# Altium footprint library ILDA UNO Shield.PcbLib: 16 footprints
Each footprint in its own frame and in the unit in brackets; x right, y up, seen from the top. Pads: shape width x height; smd on the part's side, far side on the other; paste and mask are expansions set on the pad; w line width, h text height; cw(c..) or ccw(c..) is an arc to the next point about the centre after c.
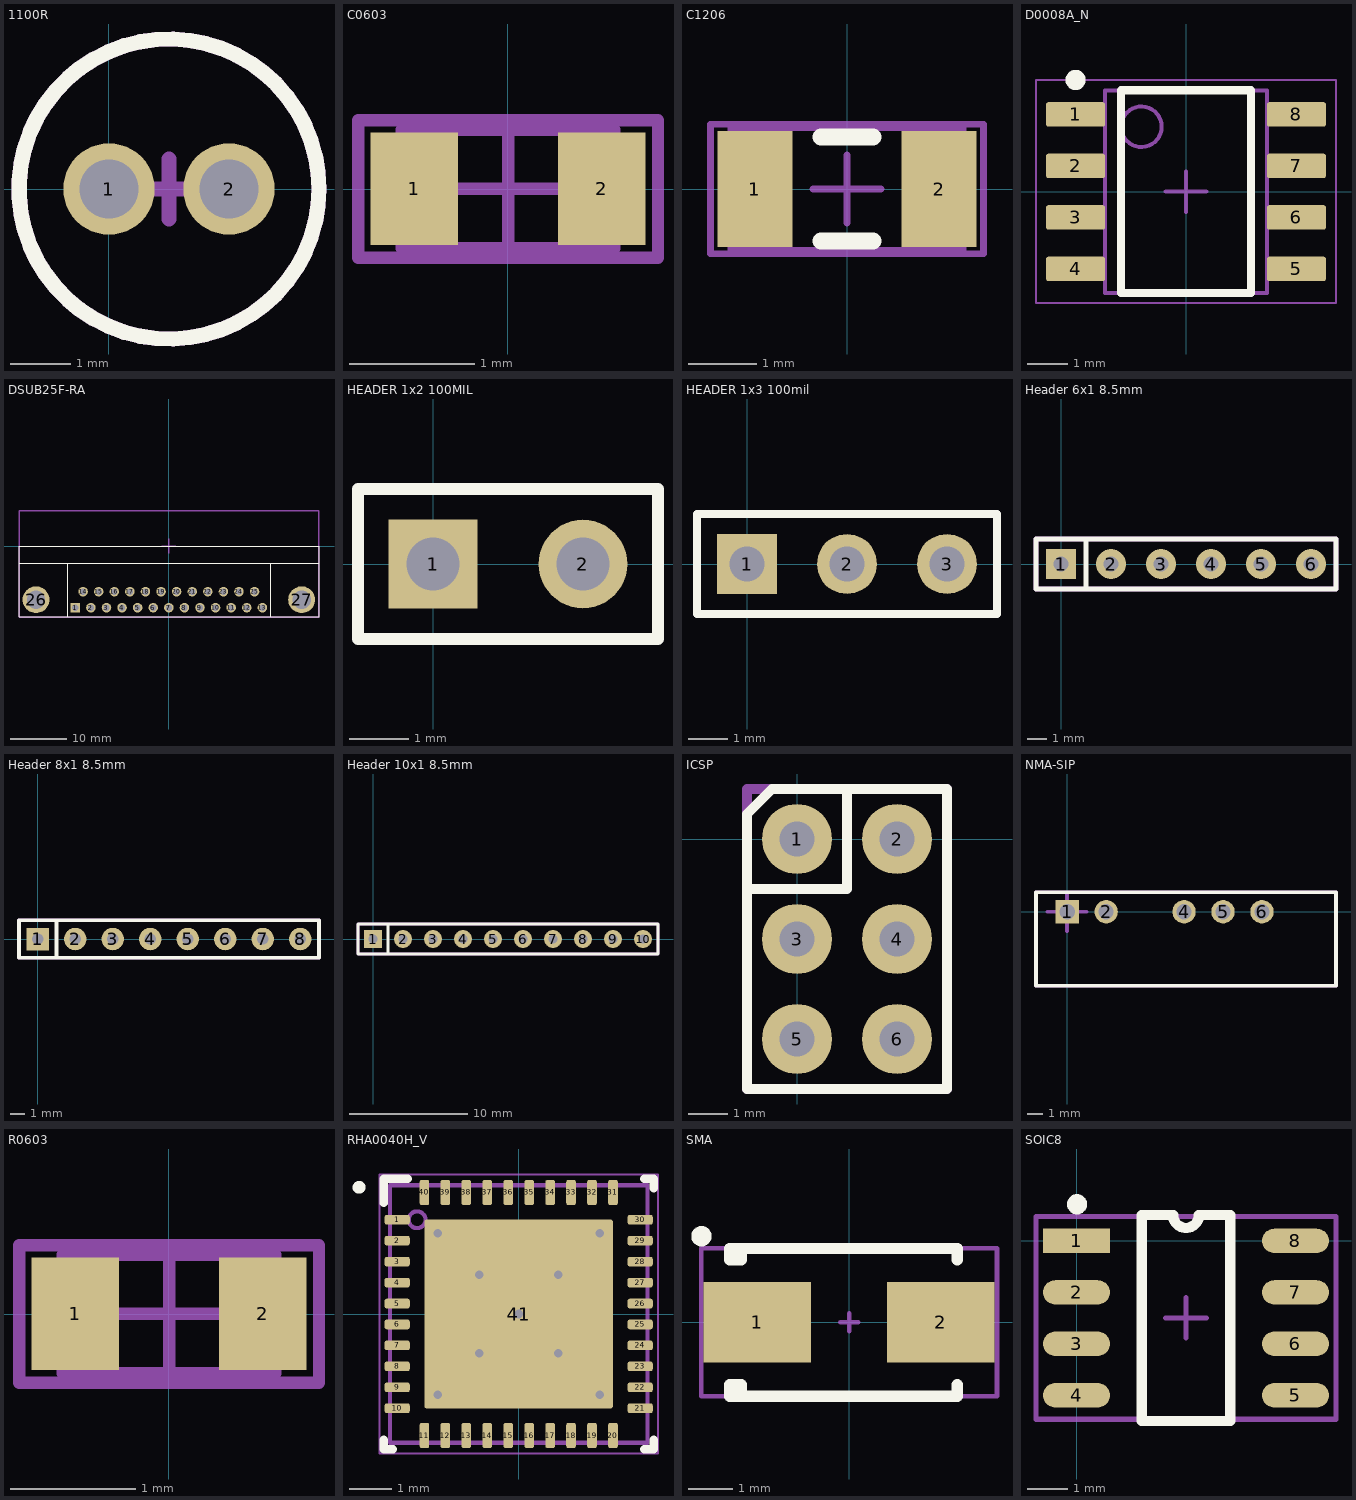
[diagram p0: the footprints below, top view; thin cyan lines are the x and y axes]

## 1100R [mil] "Murata 1100R Series Radial Lead Inductor"
pads (2):
  round 60 hole 39: 1(0,0) 2(78.74,0)
Top Overlay:
  circle w10: c39.37,0 r98.43
Mechanical 15:
  circle w10: c39.37,0 r98.43
  lines w10: 19.68,0 59.06,0 ; 39.37,-19.68 39.37,19.68
3D body "mag_1100r.STEP": height 217.08, standoff -136.78, extent -76.26,-115.62 155,115.64

## C0603 [mm] "Chip Capacitor, Body 1.6x0.8mm, IPC High Density"
height 0.9
pads (2):
  rect 0.7x0.9 smd: 1(-0.75,0) 2(0.75,0)
Mechanical 13:
  lines w0.1: -0.85,-0.475 -0.85,0.475 0.85,0.475 0.85,-0.475 -0.85,-0.475
Mechanical 15:
  lines w0.1: -0.475,0 0.475,0 ; 0,-0.475 0,0.475 ; -1.2,-0.55 -1.2,0.55 1.2,0.55 1.2,-0.55 -1.2,-0.55
3D body: height 0.9, standoff 0, extent -0.85,-0.475 0.85,0.475

## C1206 [mm] "Chip Capacitor, Body 3.2x1.6mm, IPC High Density"
height 1.3
pads (2):
  rect 1.1x1.7 smd: 1(-1.35,0) 2(1.35,0)
Top Overlay:
  lines w0.254: -0.381,-0.762 0.381,-0.762 ; -0.381,0.762 0.381,0.762
Mechanical 13:
  lines w0.1: -1.7,-0.9 -1.7,0.9 1.7,0.9 1.7,-0.9 -1.7,-0.9
Mechanical 15:
  lines w0.1: -0.5,0 0.5,0 ; 0,-0.5 0,0.5 ; -2,-0.95 -2,0.95 2,0.95 2,-0.95 -2,-0.95
3D body: height 1.3, standoff 0, extent -1.7,-0.9 1.7,0.9

## D0008A_N [mm] "SOIC, 8-Leads, Body 5x4mm, Pitch 1.27mm, IPC Medium Density"
height 1.75
pads (8):
  rrect17% 1.45x0.6 smd: 1(-2.725,1.905) 2(-2.725,0.635) 3(-2.725,-0.635) 4(-2.725,-1.905) 5(2.725,-1.905) 6(2.725,-0.635) 7(2.725,0.635) 8(2.725,1.905)
Top Overlay:
  circle w0.25: c-2.725,2.755 r0.125
  lines w0.2: -1.6,-2.5 -1.6,2.5 1.6,2.5 1.6,-2.5 -1.6,-2.5
Mechanical 13:
  circle w0.1: c-1.1,1.6 r0.5
  lines w0.1: -2,-2.5 -2,2.5 2,2.5 2,-2.5 -2,-2.5
Mechanical 15:
  lines w0.05: -3.7,-2.75 -3.7,2.75 3.7,2.75 3.7,-2.75 -3.7,-2.75
  lines w0.1: -0.5,0 0.5,0 ; 0,-0.5 0,0.5
3D body "SOIC-8akaD0008AakaM08A.stp": height 1.63, standoff 0, extent -3,-2.45 3,2.45

## DSUB25F-RA [mm] "Connector; D Subminiature; 25 Position; Right Angle; Pitch 1.385 mm"
height 12.93
pads (27):
  rect 1.69x1.69 hole 1.09: 1(-16.566,-10.92)
  round 1.69 hole 1.09: 2(-13.805,-10.92) 3(-11.044,-10.92) 4(-8.283,-10.92) 5(-5.522,-10.92) 6(-2.761,-10.92) 7(0,-10.92) 8(2.761,-10.92) 9(5.522,-10.92) 10(8.283,-10.92) 11(11.044,-10.92) 12(13.805,-10.92) 13(16.566,-10.92) 14(-15.185,-8.08) 15(-12.424,-8.08) 16(-9.663,-8.08) 17(-6.902,-8.08) 18(-4.141,-8.08) 19(-1.38,-8.08) 20(1.381,-8.08) 21(4.142,-8.08) 22(6.903,-8.08) 23(9.664,-8.08) 24(12.425,-8.08) 25(15.186,-8.08)
  round 4.76 hole 3.26: 26(-23.526,-9.5) 27(23.526,-9.5)
Top Overlay:
  lines w0.2: -26.496,-3 26.604,-3 ; -17.946,-12.5 -17.946,-3 ; 18.054,-12.5 18.054,-3 ; -26.496,-12.5 -26.496,0 26.604,0 26.604,-12.5 -26.496,-12.5
Mechanical 15:
  lines w0.254: -1.27,0 1.27,0 ; 0,-1.27 0,1.27 ; -26.543,-12.573 -26.543,6.223 26.543,6.223 26.543,-12.573 -26.543,-12.573
3D body "c-5745783-4-a-3d.stp": height 12.55, standoff -3.17, extent -26.543,-12.725 26.543,6.223

## HEADER 1x2 100MIL [mm] "Connector; Header; 2 Position"
pads (2):
  rect 1.5x1.5 hole 0.9: 1(0,0)
  round 1.5 hole 0.9: 2(2.54,0)
Top Overlay:
  lines w0.2: -1.27,-1.27 3.81,-1.27 3.81,1.27 -1.27,1.27 -1.27,-1.27
3D body "c-3-644456-2-j-3d.stp": height 10.05, standoff -2.78, extent -1.122,-1.168 3.658,1.169

## HEADER 1x3 100mil [mil] "Connector; Header; 3 Position"
pads (3):
  rect 60x60 hole 35: 1(0,0)
  round 60 hole 35: 2(100,0) 3(200,0)
Top Overlay:
  lines w7.87: -50,-50 -50,50 250,50 250,-50 -50,-50
3D body "c-3-644456-3-j-3d.stp": height 395.6, standoff -109.4, extent -44.18,-45.99 244.01,46.01

## Header 6x1 8.5mm [mil] "Stackable 6 pin header"
pads (6):
  rect 60x60 hole 30: 1(0,0)
  round 60 hole 30: 2(100,0) 3(200,0) 4(300,0) 5(400,0) 6(500,0)
Top Overlay:
  lines w10: 50,-50 -50,-50 -50,0 -50,50 50,50 ; 50,-50 50,50 ; 50,-50 550,-50 550,50 50,50
Mechanical 15:
  lines w10: -50,-50 -50,50 550,50 550,-50 -50,-50
3D body "SIL_Socket06.stp": height 334.65, standoff -584.65, extent -49.99,-50 550.01,50

## Header 8x1 8.5mm [mil] "Stackable 8 pin header"
pads (8):
  rect 60x60 hole 30: 1(0,0)
  round 60 hole 30: 2(100,0) 3(200,0) 4(300,0) 5(400,0) 6(500,0) 7(600,0) 8(700,0)
Top Overlay:
  lines w10: 50,-50 50,50 ; -50,-50 -50,50 750,50 750,-50 -50,-50
Mechanical 15:
  lines w10: -50,-50 -50,50 750,50 750,-50 -50,-50
3D body "SIL_Socket08_.stp": height 334.65, standoff -584.65, extent -50,-50 750,50

## Header 10x1 8.5mm [mil] "Stackable 10 pin header"
pads (10):
  rect 60x60 hole 30: 1(0,0)
  round 60 hole 30: 2(100,0) 3(200,0) 4(300,0) 5(400,0) 6(500,0) 7(600,0) 8(700,0) 9(800,0) 10(900,0)
Top Overlay:
  lines w10: 50,-50 50,50 ; 50,-50 950,-50 950,50 50,50 ; 50,-50 -50,-50 -50,50 50,50
Mechanical 15:
  lines w10: -50,-50 -50,50 950,50 950,-50 -50,-50
3D body "SIL_Socket10.stp": height 334.65, standoff -584.65, extent -49.99,-49.99 950.01,50.01

## ICSP [mil]
pads (6):
  round 70 hole 35.43: 1(0,0) 2(100,0) 3(0,-100) 4(100,-100) 5(0,-200) 6(100,-200)
Top Overlay:
  lines w10: -50,-50 50,-50 50,50 ; -50,-250 -50,25 -25,50 150,50 150,-250 -50,-250
Mechanical 15:
  lines w10: -50,-250 150,-250 150,50 -50,50 -50,-250
3D body "ICSP.stp": height 484.65, standoff -105.84, extent -49.99,-249.99 150.01,50.01

## NMA-SIP [mil] "Murata NMA Series DC-DC Converter"
pads (5):
  rect 60x60 hole 39: 1(0,0)
  round 60 hole 39: 2(100,0) 4(300,0) 5(400,0) 6(500,0)
Top Overlay:
  lines w10: -80,-190 690,-190 690,50 -80,50 -80,-190
Mechanical 15:
  lines w10: -50,0 50,0 ; 0,-50 0,50 ; -80,-190 690,-190 690,50 -80,50 -80,-190
3D body "mps_dcdc_nma_sc_a.step": height 394.2, standoff -160.91, extent -79.92,-187.79 687.8,49.22

## R0603 [mm] "Chip Resistor, Body 1.6x0.8mm, IPC High Density"
height 0.9
pads (2):
  rect 0.7x0.9 smd: 1(-0.75,0) 2(0.75,0)
Mechanical 13:
  lines w0.1: -0.85,-0.475 0.85,-0.475 0.85,0.475 -0.85,0.475 -0.85,-0.475
Mechanical 15:
  lines w0.1: -0.475,0 0.475,0 ; 0,-0.475 0,0.475 ; -1.2,-0.55 1.2,-0.55 1.2,0.55 -1.2,0.55 -1.2,-0.55
3D body: height 0.9, standoff 0, extent -0.85,-0.475 0.85,0.475

## RHA0040H_V [mm] "QFN, 40-Leads, Body 6x6mm, Pitch 0.5mm, Thermal Pad 4.15 x 4.15mm, TI Recommended"
height 1
pads (41):
  rrect43% 0.6x0.23 smd mask+0.07: 1(-2.9,2.25) 2(-2.9,1.75) 3(-2.9,1.25) 4(-2.9,0.75) 5(-2.9,0.25) 6(-2.9,-0.25) 7(-2.9,-0.75) 8(-2.9,-1.25) 9(-2.9,-1.75) 10(-2.9,-2.25) 21(2.9,-2.25) 22(2.9,-1.75) 23(2.9,-1.25) 24(2.9,-0.75) 25(2.9,-0.25) 26(2.9,0.25) 27(2.9,0.75) 28(2.9,1.25) 29(2.9,1.75) 30(2.9,2.25)
  rrect43% 0.23x0.6 smd mask+0.07: 11(-2.25,-2.9) 12(-1.75,-2.9) 13(-1.25,-2.9) 14(-0.75,-2.9) 15(-0.25,-2.9) 16(0.25,-2.9) 17(0.75,-2.9) 18(1.25,-2.9) 19(1.75,-2.9) 20(2.25,-2.9) 31(2.25,2.9) 32(1.75,2.9) 33(1.25,2.9) 34(0.75,2.9) 35(0.25,2.9) 36(-0.25,2.9) 37(-0.75,2.9) 38(-1.25,2.9) 39(-1.75,2.9) 40(-2.25,2.9)
  rrect2% 4.5x4.5 smd paste-2.5: 41(0,0)
via 0.94,0.94 diameter 0.483 hole 0.203
via 0.94,-0.94 diameter 0.483 hole 0.203
via -0.94,-0.94 diameter 0.483 hole 0.203
via -0.94,0.94 diameter 0.483 hole 0.203
via -1.93,-1.93 diameter 0.483 hole 0.203
via 1.93,-1.93 diameter 0.483 hole 0.203
via 0,0 diameter 0.483 hole 0.203
via 1.93,1.93 diameter 0.483 hole 0.203
via -1.93,1.93 diameter 0.483 hole 0.203
Top Overlay:
  circle w0.254: c-3.81,3.023 r0.025
  lines w0.2: -3.225,-3 -3.225,-3.225 -3,-3.225 ; -3.225,2.65 -3.225,3.225 -2.65,3.225 ; 3,-3.225 3.225,-3.225 3.225,-3 ; 3,3.225 3.225,3.225 3.225,3
Top Paste:
  rectangle: -2.082,-0.627 -0.827,0.627
  rectangle: -0.627,-0.627 0.627,0.627
  rectangle: -2.082,-2.082 -0.827,-0.827
  rectangle: -2.082,0.827 -0.827,2.082
  rectangle: -0.627,0.827 0.627,2.082
  rectangle: -0.627,-2.082 0.627,-0.827
  rectangle: 0.827,-2.082 2.082,-0.827
  rectangle: 0.827,0.827 2.082,2.082
  rectangle: 0.827,-0.627 2.082,0.627
Mechanical 13:
  circle w0.1: c-2.425,2.25 r0.2
  lines w0.1: -3.075,-3.075 -3.075,3.075 3.075,3.075 3.075,-3.075 -3.075,-3.075
Mechanical 15:
  lines w0.05: -3.325,-3.325 -3.325,3.325 3.325,3.325 3.325,-3.325 -3.325,-3.325
  lines w0.1: -0.5,0 0.5,0 ; 0,-0.5 0,0.5
3D body: height 1.01, standoff 0.5, extent -2.624,2.051 -2.226,2.449
3D body: height 1, standoff 0, extent -3.075,-3.075 3.075,3.075

## SMA [mm] "DO-214-AC/SMA; 2 C-Bend Leads; Body 5 x 2.7 mm, inc. leads (LxW)"
height 2.286
pads (2):
  rect 2.4x1.8 smd: 1(-2.05,0) 2(2.05,0)
Top Overlay:
  circle w0.254: c-3.3,1.924 r0.1
  lines w0.254: -2.413,-1.524 -2.413,-1.397 -2.667,-1.397 -2.667,-1.651 2.413,-1.651 2.413,-1.397 ; -2.413,1.524 -2.413,1.397 -2.667,1.397 -2.667,1.651 2.413,1.651 2.413,1.397
Mechanical 15:
  lines w0.1: -0.2,0 0.2,0 ; 0,-0.2 0,0.2
  lines w0.102: -3.302,-1.651 3.302,-1.651 3.302,1.651 -3.302,1.651 -3.302,-1.651
3D body: height 2.29, standoff 0, extent -2.286,-1.397 2.286,1.397

## SOIC8 [mm]
pads (8):
  rect 1.651x0.6 smd: 1(0,0)
  oval 1.651x0.6 smd: 2(0,-1.27) 3(0,-2.54) 4(0,-3.81) 5(5.4,-3.81) 6(5.4,-2.54) 7(5.4,-1.27) 8(5.4,0)
Top Overlay:
  circle w0.25: c0.013,0.901 r0.125
  lines w0.254: 1.61,-4.445 3.79,-4.445 3.79,0.635 3.017,0.635 cw(c2.7,0.635) 2.382,0.635 1.61,0.635 1.61,-4.445
Mechanical 15:
  lines w0.127: 2.2,-1.9 3.2,-1.9 ; 2.7,-2.4 2.7,-1.4 ; -1,-4.4 6.4,-4.4 6.4,0.6 -1,0.6 -1,-4.4
3D body "User Library-SOIC-8-1.step": height 1.75, standoff 0, extent -0.327,-4.355 5.673,0.545